# Altium footprint library switch.PcbLib: 1 footprints
Each footprint in its own frame and in the unit in brackets; x right, y up, seen from the top. Pads: shape width x height; smd on the part's side, far side on the other; paste and mask are expansions set on the pad; w line width, h text height; cw(c..) or ccw(c..) is an arc to the next point about the centre after c.
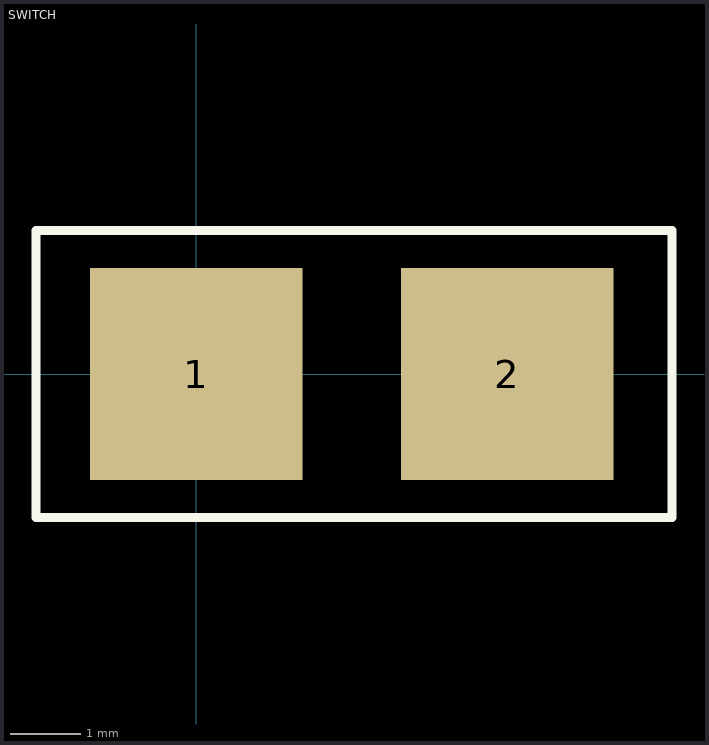
[diagram p0: the footprint, top view; thin cyan lines are the x and y axes]

## SWITCH [mm]
pads (2):
  rect 3x3 all layers, no hole: 1(0,0) 2(4.398,0)
Top Overlay:
  lines w0.127: -2.269,-2.032 -2.269,2.032 6.731,2.032 6.731,-2.032 -2.269,-2.032